# Altium footprint library NM1812C-3.PcbLib: 1 footprints
Each footprint in its own frame and in the unit in brackets; x right, y up, seen from the top. Pads: shape width x height; smd on the part's side, far side on the other; paste and mask are expansions set on the pad; w line width, h text height; cw(c..) or ccw(c..) is an arc to the next point about the centre after c.
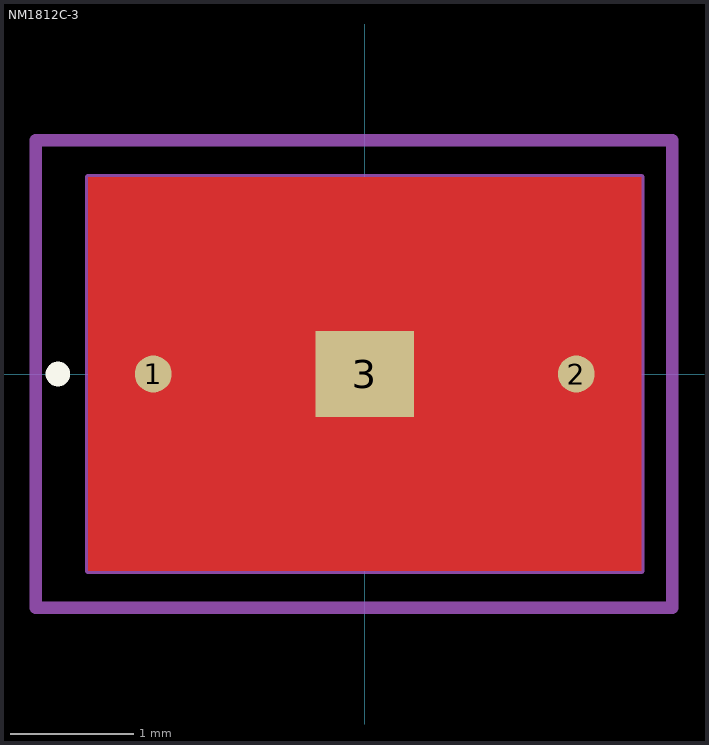
[diagram p0: the footprint, top view; thin cyan lines are the x and y axes]

## NM1812C-3 [mm]
height 0.6
pads (3):
  round 0.3 smd: 1(-1.72,0) 2(1.72,0)
  rect 0.8x0.7 smd paste-10 mask+0.1: 3(0,0)
Top Layer:
  region: -2.25,-1.6 -2.25,0 -2.07,0 -2.063,-0.068 -2.011,-0.194 -1.914,-0.291 -1.788,-0.343 -1.652,-0.343 -1.526,-0.291 -1.429,-0.194 -1.377,-0.068 -1.37,0 1.37,0 1.377,-0.068 1.429,-0.194 1.526,-0.291 1.652,-0.343 1.788,-0.343 1.914,-0.291 2.011,-0.194 2.063,-0.068 2.07,0 2.25,0 2.25,-1.6
  region: -2.25,0 -2.25,1.6 2.25,1.6 2.25,0 2.07,0 2.063,0.068 2.011,0.194 1.914,0.291 1.788,0.343 1.652,0.343 1.526,0.291 1.429,0.194 1.377,0.068 1.37,0 -1.37,0 -1.377,0.068 -1.429,0.194 -1.526,0.291 -1.652,0.343 -1.788,0.343 -1.914,0.291 -2.011,0.194 -2.063,0.068 -2.07,0
  pour cut-out: 1.37,0 1.37,-0.07 1.423,-0.198 1.522,-0.297 1.65,-0.35 1.72,-0.35 1.79,-0.35 1.918,-0.297 2.017,-0.198 2.07,-0.07 2.07,0 2.07,0.07 2.017,0.198 1.918,0.297 1.79,0.35 1.72,0.35 1.65,0.35 1.522,0.297 1.423,0.198 1.37,0.07
  pour cut-out: -1.72,-0.35 -1.79,-0.35 -1.918,-0.297 -2.017,-0.198 -2.07,-0.07 -2.07,0 -2.07,0.07 -2.017,0.198 -1.918,0.297 -1.79,0.35 -1.72,0.35 -1.65,0.35 -1.522,0.297 -1.423,0.198 -1.37,0.07 -1.37,0 -1.37,-0.07 -1.423,-0.198 -1.522,-0.297 -1.65,-0.35
Top Overlay:
  lines w0.1: -2.545,0 ccw(c-2.495,0) -2.445,0 ccw(c-2.495,0) -2.545,0
Top Paste:
  region: -2.125,-0.2 -2.125,-1.4 -0.25,-1.4 -0.25,-0.2 -1.379,-0.2 -1.406,-0.245 -1.477,-0.322 -1.566,-0.376 -1.666,-0.404 -1.771,-0.404 -1.871,-0.376 -1.96,-0.322 -2.031,-0.245 -2.058,-0.2
  region: 2.125,-0.2 2.125,-1.4 0.225,-1.4 0.225,-0.2 1.379,-0.2 1.406,-0.245 1.477,-0.322 1.566,-0.376 1.666,-0.404 1.771,-0.404 1.871,-0.376 1.96,-0.322 2.031,-0.245 2.058,-0.2
  region: 2.125,0.2 2.125,1.4 0.225,1.4 0.225,0.2 1.379,0.2 1.406,0.245 1.477,0.322 1.566,0.376 1.666,0.404 1.771,0.404 1.871,0.376 1.96,0.322 2.031,0.245 2.058,0.2
  region: -2.125,0.2 -2.125,1.4 -0.25,1.4 -0.25,0.2 -1.379,0.2 -1.406,0.245 -1.477,0.322 -1.566,0.376 -1.666,0.404 -1.771,0.404 -1.871,0.376 -1.96,0.322 -2.031,0.245 -2.058,0.2
Top Courtyard:
  lines w0.05: -2.25,-1.6 2.25,-1.6 2.25,1.6 -2.25,1.6 -2.25,-1.6
Mechanical 15:
  lines w0.1: -2.675,-1.9 -2.675,1.9 2.5,1.9 2.5,-1.9 -2.675,-1.9
3D body "BFHK-4951+.stp": height 1.49, standoff 0, extent -2.25,-1.6 2.25,1.6